# Altium schematic symbol library CON-6X2.SchLib: 1 symbol
Pins are listed as number, name and electrical type; pins without a type are passive.

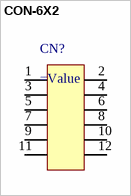
[diagram p0: symbol CON-6X2]

## CON-6X2
designator CN?  (no BOM)
=Description
pins: 1, 2, 3, 4, 5, 6, 7, 8, 9, 10, 11, 12